# Altium footprint library XH，VH.PcbLib: 67 footprints (part 1 of 5)
Each footprint in its own frame and in the unit in brackets; x right, y up, seen from the top. Pads: shape width x height; smd on the part's side, far side on the other; paste and mask are expansions set on the pad; w line width, h text height; cw(c..) or ccw(c..) is an arc to the next point about the centre after c.
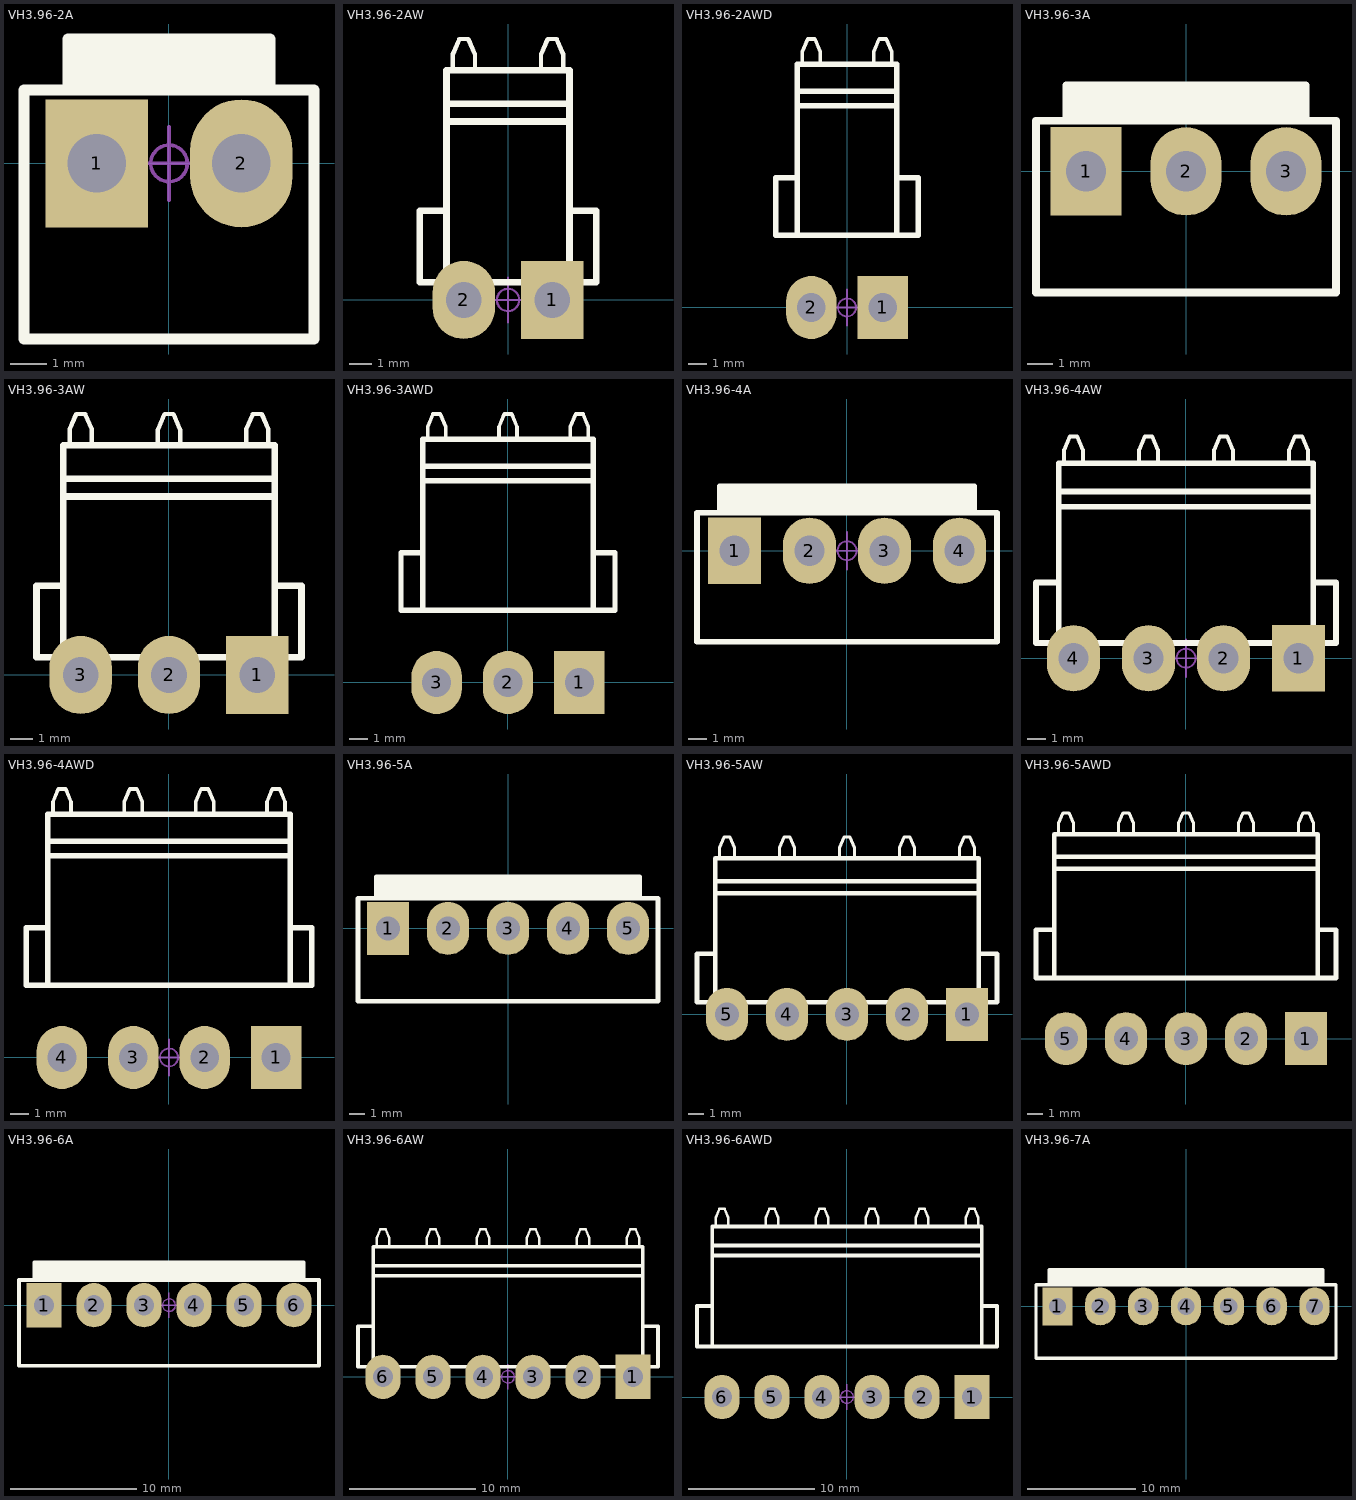
[diagram p0: the footprints below, top view; thin cyan lines are the x and y axes]

## VH3.96-2A [mm]
pads (2):
  rect 2.8x3.5 hole 1.6: 1(-1.98,0)
  oval 2.8x3.5 hole 1.6: 2(1.98,0)
Top Overlay:
  lines w0.3: -2.76,2 -2.76,3.4 2.76,3.4 2.76,2 ; -2.76,2.286 2.76,2.286 ; -2.76,2.413 2.76,2.413 ; -2.76,2.667 2.76,2.667 ; -2.76,2.921 2.76,2.921 ; -2.76,3.175 2.76,3.175 ; -3.96,-4.8 -3.96,2 3.96,2 3.96,-4.8 -3.96,-4.8
Mechanical 15:
  circle w0.1: c0,0 r0.5
  lines w0.1: -1,0 1,0 ; 0,-1 0,1
3D body "VH3.96-2A.STEP": height 14.6, standoff -3.6, extent -3.96,-4.8 3.96,3.6

## VH3.96-2AW [mm]
pads (2):
  rect 2.8x3.5 hole 1.6: 1(1.98,0)
  oval 2.8x3.5 hole 1.6: 2(-1.98,0)
Top Overlay:
  lines w0.2: -2.48,10.3 -2.48,11 -2.18,11.7 -1.78,11.7 -1.48,11 -1.48,10.3 ; 1.48,10.3 1.48,11 1.78,11.7 2.18,11.7 2.48,11 2.48,10.3
  lines w0.3: -2.76,0.8 -2.76,10.3 2.76,10.3 2.76,0.8 ; -2.76,4 -3.96,4 -3.96,0.8 3.96,0.8 3.96,4 2.76,4 ; -2.76,8 2.76,8 ; -2.76,8.8 2.76,8.8
Mechanical 15:
  circle w0.1: c0,0 r0.5
  lines w0.1: -1,0 1,0 ; 0,-1 0,1
3D body "VH3.96-2AW.STEP": height 8.4, standoff -3.6, extent -3.96,-0.55 3.96,11.7

## VH3.96-2AWD [mm]
pads (2):
  rect 2.8x3.5 hole 1.6: 1(1.98,0)
  oval 2.8x3.5 hole 1.6: 2(-1.98,0)
Top Overlay:
  lines w0.2: -2.48,13.5 -2.48,14.2 -2.18,14.9 -1.78,14.9 -1.48,14.2 -1.48,13.5 ; 1.48,13.5 1.48,14.2 1.78,14.9 2.18,14.9 2.48,14.2 2.48,13.5
  lines w0.3: -2.76,4 -2.76,13.5 2.76,13.5 2.76,4 ; -2.76,7.2 -3.96,7.2 -3.96,4 3.96,4 3.96,7.2 2.76,7.2 ; -2.76,11.2 2.76,11.2 ; -2.76,12 2.76,12
Mechanical 15:
  circle w0.1: c0,0 r0.5
  lines w0.1: -1,0 1,0 ; 0,-1 0,1
3D body "VH3.96-2AWD.STEP": height 8.4, standoff -3.6, extent -3.96,-0.55 3.96,14.9

## VH3.96-3A [mm]
pads (3):
  rect 2.8x3.5 hole 1.6: 1(-3.96,0)
  oval 2.8x3.5 hole 1.6: 2(0,0) 3(3.96,0)
Top Overlay:
  lines w0.3: -4.74,2 -4.74,3.4 4.74,3.4 4.74,2 ; -4.74,2.286 4.74,2.286 ; -4.74,2.413 4.74,2.413 ; -4.74,2.667 4.74,2.667 ; -4.74,2.921 4.74,2.921 ; -4.74,3.175 4.74,3.175 ; -5.94,-4.8 5.94,-4.8 5.94,2 -5.94,2 -5.94,-4.8
Mechanical 15:
  circle w0.1: c0,0 r0.5
  lines w0.1: -1,0 1,0 ; 0,-1 0,1
3D body "VH3.96-3A.STEP": height 14.6, standoff -3.6, extent -5.94,-4.8 5.94,3.6

## VH3.96-3AW [mm]
pads (3):
  rect 2.8x3.5 hole 1.6: 1(3.96,0)
  oval 2.8x3.5 hole 1.6: 2(0,0) 3(-3.96,0)
Top Overlay:
  lines w0.2: -4.46,10.3 -4.46,11 -4.16,11.7 -3.76,11.7 -3.46,11 -3.46,10.3 ; -0.5,10.3 -0.5,11 -0.2,11.7 0.2,11.7 0.5,11 0.5,10.3 ; 3.46,10.3 3.46,11 3.76,11.7 4.16,11.7 4.46,11 4.46,10.3
  lines w0.3: -4.74,0.8 -4.74,10.3 4.74,10.3 4.74,0.8 ; -4.74,4 -5.94,4 -5.94,0.8 5.94,0.8 5.94,4 4.74,4 ; -4.74,8 4.74,8 ; -4.74,8.8 4.74,8.8
Mechanical 15:
  circle w0.1: c0,0 r0.5
  lines w0.1: -1,0 1,0 ; 0,-1 0,1
3D body "VH3.96-3AW.STEP": height 8.4, standoff -3.6, extent -5.94,-0.55 5.94,11.7

## VH3.96-3AWD [mm]
pads (3):
  rect 2.8x3.5 hole 1.6: 1(3.96,0)
  oval 2.8x3.5 hole 1.6: 2(0,0) 3(-3.96,0)
Top Overlay:
  lines w0.2: -4.46,13.5 -4.46,14.2 -4.16,14.9 -3.76,14.9 -3.46,14.2 -3.46,13.5 ; -0.5,13.5 -0.5,14.2 -0.2,14.9 0.2,14.9 0.5,14.2 0.5,13.5 ; 3.46,13.5 3.46,14.2 3.76,14.9 4.16,14.9 4.46,14.2 4.46,13.5
  lines w0.3: -4.74,4 -4.74,13.5 4.74,13.5 4.74,4 ; -4.74,7.2 -5.94,7.2 -5.94,4 5.94,4 5.94,7.2 4.74,7.2 ; -4.74,11.2 4.74,11.2 ; -4.74,12 4.74,12
Mechanical 15:
  circle w0.1: c0,0 r0.5
  lines w0.1: -1,0 1,0 ; 0,-1 0,1
3D body "VH3.96-3AW.STEP": height 8.4, standoff -3.6, extent -5.94,-0.55 5.94,14.9

## VH3.96-4A [mm]
pads (4):
  rect 2.8x3.5 hole 1.6: 1(-5.94,0)
  oval 2.8x3.5 hole 1.6: 2(-1.98,0) 3(1.98,0) 4(5.94,0)
Top Overlay:
  lines w0.3: -6.72,2 -6.72,3.4 6.72,3.4 6.72,2 ; -6.72,2.159 6.72,2.159 ; -6.72,2.413 6.72,2.413 ; -6.72,2.667 6.72,2.667 ; -6.72,2.921 6.72,2.921 ; -6.72,3.175 6.72,3.175 ; -7.92,-4.8 -7.92,2 7.92,2 7.92,-4.8 -7.92,-4.8
Mechanical 15:
  circle w0.1: c0,0 r0.5
  lines w0.1: -1,0 1,0 ; 0,-1 0,1
3D body "VH3.96-4A.STEP": height 14.6, standoff -3.6, extent -7.92,-4.8 7.92,3.6

## VH3.96-4AW [mm]
pads (4):
  rect 2.8x3.5 hole 1.6: 1(5.94,0)
  oval 2.8x3.5 hole 1.6: 2(1.98,0) 3(-1.98,0) 4(-5.94,0)
Top Overlay:
  lines w0.2: -6.44,10.3 -6.44,11 -6.14,11.7 -5.74,11.7 -5.44,11 -5.44,10.3 ; -2.48,10.3 -2.48,11 -2.18,11.7 -1.78,11.7 -1.48,11 -1.48,10.3 ; 1.48,10.3 1.48,11 1.78,11.7 2.18,11.7 2.48,11 2.48,10.3 ; 5.44,10.3 5.44,11 5.74,11.7 6.14,11.7 6.44,11 6.44,10.3
  lines w0.3: -6.72,0.8 -6.72,10.3 6.72,10.3 6.72,0.8 ; -6.72,4 -7.92,4 -7.92,0.8 7.92,0.8 7.92,4 6.72,4 ; -6.72,8 6.72,8 ; -6.72,8.8 6.72,8.8
Mechanical 15:
  circle w0.1: c0,0 r0.5
  lines w0.1: -1,0 1,0 ; 0,-1 0,1
3D body "VH3.96-4AW.STEP": height 8.4, standoff -3.6, extent -7.92,-0.55 7.92,11.7

## VH3.96-4AWD [mm]
pads (4):
  rect 2.8x3.5 hole 1.6: 1(5.94,0)
  oval 2.8x3.5 hole 1.6: 2(1.98,0) 3(-1.98,0) 4(-5.94,0)
Top Overlay:
  lines w0.2: -6.44,13.5 -6.44,14.2 -6.14,14.9 -5.74,14.9 -5.44,14.2 -5.44,13.5 ; -2.48,13.5 -2.48,14.2 -2.18,14.9 -1.78,14.9 -1.48,14.2 -1.48,13.5 ; 1.48,13.5 1.48,14.2 1.78,14.9 2.18,14.9 2.48,14.2 2.48,13.5 ; 5.44,13.5 5.44,14.2 5.74,14.9 6.14,14.9 6.44,14.2 6.44,13.5
  lines w0.3: -6.72,4 -6.72,13.5 6.72,13.5 6.72,4 ; -6.72,7.2 -7.92,7.2 -7.92,4 7.92,4 7.92,7.2 6.72,7.2 ; -6.72,11.2 6.72,11.2 ; -6.72,12 6.72,12
Mechanical 15:
  circle w0.1: c0,0 r0.5
  lines w0.1: -1,0 1,0 ; 0,-1 0,1
3D body "VH3.96-4AW.STEP": height 8.4, standoff -3.6, extent -7.92,-0.55 7.92,14.9

## VH3.96-5A [mm]
pads (5):
  rect 2.8x3.5 hole 1.6: 1(-7.92,0)
  oval 2.8x3.5 hole 1.6: 2(-3.96,0) 3(0,0) 4(3.96,0) 5(7.92,0)
Top Overlay:
  lines w0.3: -8.7,2 -8.7,3.4 8.7,3.4 8.7,2 ; -8.7,2.159 8.7,2.159 ; -8.7,2.413 8.7,2.413 ; -8.7,2.667 8.7,2.667 ; -8.7,2.921 8.7,2.921 ; -8.7,3.175 8.7,3.175 ; -9.9,-4.8 -9.9,2 9.9,2 9.9,-4.8 -9.9,-4.8
Mechanical 15:
  circle w0.1: c0,0 r0.5
  lines w0.1: -1,0 1,0 ; 0,-1 0,1
3D body "VH3.96-5A.STEP": height 14.6, standoff -3.6, extent -9.9,-4.8 9.9,3.6

## VH3.96-5AW [mm]
pads (5):
  rect 2.8x3.5 hole 1.6: 1(7.92,0)
  oval 2.8x3.5 hole 1.6: 2(3.96,0) 3(0,0) 4(-3.96,0) 5(-7.92,0)
Top Overlay:
  lines w0.2: -8.42,10.3 -8.42,11 -8.12,11.7 -7.72,11.7 -7.42,11 -7.42,10.3 ; -4.46,10.3 -4.46,11 -4.16,11.7 -3.76,11.7 -3.46,11 -3.46,10.3 ; -0.5,10.3 -0.5,11 -0.2,11.7 0.2,11.7 0.5,11 0.5,10.3 ; 3.46,10.3 3.46,11 3.76,11.7 4.16,11.7 4.46,11 4.46,10.3 ; 7.42,10.3 7.42,11 7.72,11.7 8.12,11.7 8.42,11 8.42,10.3
  lines w0.3: -8.7,0.8 -8.7,10.3 8.7,10.3 8.7,0.8 ; -8.7,4 -9.9,4 -9.9,0.8 9.9,0.8 9.9,4 8.7,4 ; -8.7,8 8.7,8 ; -8.7,8.8 8.7,8.8
Mechanical 15:
  circle w0.1: c0,0 r0.5
  lines w0.1: -1,0 1,0 ; 0,-1 0,1
3D body "VH3.96-5AW.STEP": height 8.4, standoff -3.6, extent -9.9,-0.55 9.9,11.7

## VH3.96-5AWD [mm]
pads (5):
  rect 2.8x3.5 hole 1.6: 1(7.92,0)
  oval 2.8x3.5 hole 1.6: 2(3.96,0) 3(0,0) 4(-3.96,0) 5(-7.92,0)
Top Overlay:
  lines w0.2: -8.42,13.5 -8.42,14.2 -8.12,14.9 -7.72,14.9 -7.42,14.2 -7.42,13.5 ; -4.46,13.5 -4.46,14.2 -4.16,14.9 -3.76,14.9 -3.46,14.2 -3.46,13.5 ; -0.5,13.5 -0.5,14.2 -0.2,14.9 0.2,14.9 0.5,14.2 0.5,13.5 ; 3.46,13.5 3.46,14.2 3.76,14.9 4.16,14.9 4.46,14.2 4.46,13.5 ; 7.42,13.5 7.42,14.2 7.72,14.9 8.12,14.9 8.42,14.2 8.42,13.5
  lines w0.3: -8.7,4 -8.7,13.5 8.7,13.5 8.7,4 ; -8.7,7.2 -9.9,7.2 -9.9,4 9.9,4 9.9,7.2 8.7,7.2 ; -8.7,11.2 8.7,11.2 ; -8.7,12 8.7,12
Mechanical 15:
  circle w0.1: c0,0 r0.5
  lines w0.1: -1,0 1,0 ; 0,-1 0,1
3D body "VH3.96-5AW.STEP": height 8.4, standoff -3.6, extent -9.9,-0.55 9.9,14.9

## VH3.96-6A [mm]
pads (6):
  rect 2.8x3.5 hole 1.6: 1(-9.9,0)
  oval 2.8x3.5 hole 1.6: 2(-5.94,0) 3(-1.98,0) 4(1.98,0) 5(5.94,0) 6(9.9,0)
Top Overlay:
  lines w0.3: -10.68,2 -10.68,3.4 10.68,3.4 10.68,2 ; -10.68,2.159 10.68,2.159 ; -10.68,2.413 10.68,2.413 ; -10.68,2.667 10.68,2.667 ; -10.68,2.921 10.68,2.921 ; -10.68,3.175 10.68,3.175 ; -11.88,-4.8 11.88,-4.8 11.88,2 -11.88,2 -11.88,-4.8
Mechanical 15:
  circle w0.1: c0,0 r0.5
  lines w0.1: -1,0 1,0 ; 0,-1 0,1
3D body "VH3.96-6A.STEP": height 14.6, standoff -3.6, extent -11.88,-4.8 11.88,3.6

## VH3.96-6AW [mm]
pads (6):
  rect 2.8x3.5 hole 1.6: 1(9.9,0)
  oval 2.8x3.5 hole 1.6: 2(5.94,0) 3(1.98,0) 4(-1.98,0) 5(-5.94,0) 6(-9.9,0)
Top Overlay:
  lines w0.2: -10.4,10.3 -10.4,11 -10.1,11.7 -9.7,11.7 -9.4,11 -9.4,10.3 ; -6.44,10.3 -6.44,11 -6.14,11.7 -5.74,11.7 -5.44,11 -5.44,10.3 ; -2.48,10.3 -2.48,11 -2.18,11.7 -1.78,11.7 -1.48,11 -1.48,10.3 ; 1.48,10.3 1.48,11 1.78,11.7 2.18,11.7 2.48,11 2.48,10.3 ; 5.44,10.3 5.44,11 5.74,11.7 6.14,11.7 6.44,11 6.44,10.3 ; 9.4,10.3 9.4,11 9.7,11.7 10.1,11.7 10.4,11 10.4,10.3
  lines w0.3: -10.68,0.8 -10.68,10.3 10.68,10.3 10.68,0.8 ; -10.68,4 -11.88,4 -11.88,0.8 11.88,0.8 11.88,4 10.68,4 ; -10.68,8 10.68,8 ; -10.68,8.8 10.68,8.8
Mechanical 15:
  circle w0.1: c0,0 r0.5
  lines w0.1: -1,0 1,0 ; 0,-1 0,1
3D body "VH3.96-6AW.STEP": height 8.4, standoff -3.6, extent -11.88,-0.55 11.88,11.7

## VH3.96-6AWD [mm]
pads (6):
  rect 2.8x3.5 hole 1.6: 1(9.9,0)
  oval 2.8x3.5 hole 1.6: 2(5.94,0) 3(1.98,0) 4(-1.98,0) 5(-5.94,0) 6(-9.9,0)
Top Overlay:
  lines w0.2: -10.4,13.5 -10.4,14.2 -10.1,14.9 -9.7,14.9 -9.4,14.2 -9.4,13.5 ; -6.44,13.5 -6.44,14.2 -6.14,14.9 -5.74,14.9 -5.44,14.2 -5.44,13.5 ; -2.48,13.5 -2.48,14.2 -2.18,14.9 -1.78,14.9 -1.48,14.2 -1.48,13.5 ; 1.48,13.5 1.48,14.2 1.78,14.9 2.18,14.9 2.48,14.2 2.48,13.5 ; 5.44,13.5 5.44,14.2 5.74,14.9 6.14,14.9 6.44,14.2 6.44,13.5 ; 9.4,13.5 9.4,14.2 9.7,14.9 10.1,14.9 10.4,14.2 10.4,13.5
  lines w0.3: -10.68,4 -10.68,13.5 10.68,13.5 10.68,4 ; -10.68,7.2 -11.88,7.2 -11.88,4 11.88,4 11.88,7.2 10.68,7.2 ; -10.68,11.2 10.68,11.2 ; -10.68,12 10.68,12
Mechanical 15:
  circle w0.1: c0,0 r0.5
  lines w0.1: -1,0 1,0 ; 0,-1 0,1
3D body "VH3.96-6AW.STEP": height 8.4, standoff -3.6, extent -11.88,-0.55 11.88,14.9

## VH3.96-7A [mm]
pads (7):
  rect 2.8x3.5 hole 1.6: 1(-11.88,0)
  oval 2.8x3.5 hole 1.6: 2(-7.92,0) 3(-3.96,0) 4(0,0) 5(3.96,0) 6(7.92,0) 7(11.88,0)
Top Overlay:
  lines w0.3: -12.66,2 -12.66,3.4 12.66,3.4 12.66,2 ; -12.66,2.159 12.66,2.159 ; -12.66,2.413 12.66,2.413 ; -12.66,2.667 12.66,2.667 ; -12.66,2.921 12.66,2.921 ; -12.66,3.175 12.66,3.175 ; -13.86,-4.8 -13.86,2 13.86,2 13.86,-4.8 -13.86,-4.8
Mechanical 15:
  circle w0.1: c0,0 r0.5
  lines w0.1: -1,0 1,0 ; 0,-1 0,1
3D body "VH3.96-7A.STEP": height 14.6, standoff -3.6, extent -13.86,-4.8 13.86,3.6